# EAGLE library part OPAMP-QUAD-LM324 (library FlashPCB_ICs)
LMV324 - IC OPAMP GP 4 CIRCUIT 14SOIC Technical Specifications: General Purpose Amplifier 4 Circuit Rail-to-Rail 14-SOIC Follows Industry Standard LM324 Op-Amp Architecture Supply Voltage: 2.7V~5.5V Component Search: LMV324 <https://www.flashpcb.com/components> Datasheet: LMV3xx-N/-Q1 Single/Dual/Quad General Purpose, Low V, Rail-to-Rail Output Op Amp datasheet (Rev. K) <https://www.ti.com/lit/ds/symlink/lmv324-n-q1.pdf?HQS=dis-dk-null-digikeymode-dsf-pf-null-wwe&ts=1683577335183&ref_url=https%253A%252F%252Fwww.ti.com%252Fgeneral%252Fdocs%252Fsuppproductinfo.tsp%253FdistId%253D10%2526gotoUrl%253Dhttps%253A%252F%252Fwww.ti.com%252Flit%252Fgpn%252Flmv324-n-q1>
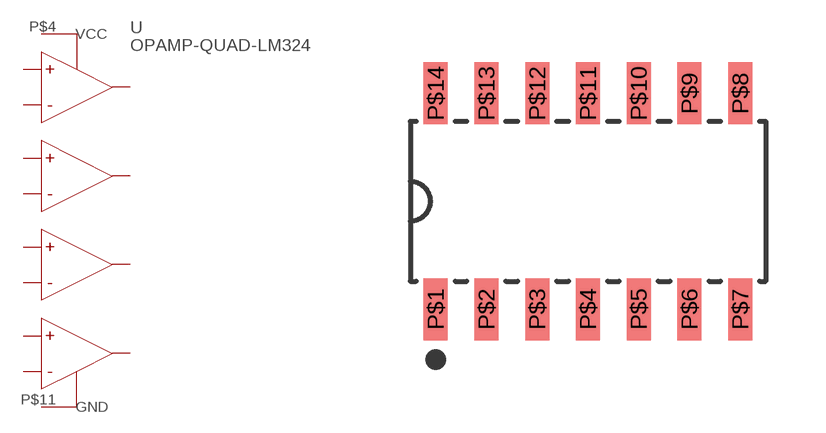
[diagram p68: symbol with the pads of SOIC-14-150MIL-3.9MM; footprint SOIC-14-150MIL-3.9MM]

Designator prefix U

## OPAMP-QUAD-LM324  [SOIC-14-150MIL-3.9MM]
P$1  1OUT
P$2  1IN-
P$3  1IN+
P$4  VCC
P$5  2IN+
P$6  2IN-
P$7  2OUT
P$8  3OUT
P$9  3IN-
P$10  3IN+
P$11  GND
P$12  4IN+
P$13  4IN-
P$14  4OUT

## Footprint SOIC-14-150MIL-3.9MM (pad centres in mm)
smd 0.6 x 1.55: P$1 -3.81,-2.7; P$2 -2.54,-2.7; P$3 -1.27,-2.7; P$4 0,-2.7; P$5 1.27,-2.7; P$6 2.54,-2.7; P$7 3.81,-2.7; P$8 3.81,2.7; P$9 2.54,2.7; P$10 1.27,2.7; P$11 0,2.7; P$12 -1.27,2.7; P$13 -2.54,2.7; P$14 -3.81,2.7